# Altium footprint library PcbLib1.PcbLib: 4 footprints
Each footprint in its own frame and in the unit in brackets; x right, y up, seen from the top. Pads: shape width x height; smd on the part's side, far side on the other; paste and mask are expansions set on the pad; w line width, h text height; cw(c..) or ccw(c..) is an arc to the next point about the centre after c.
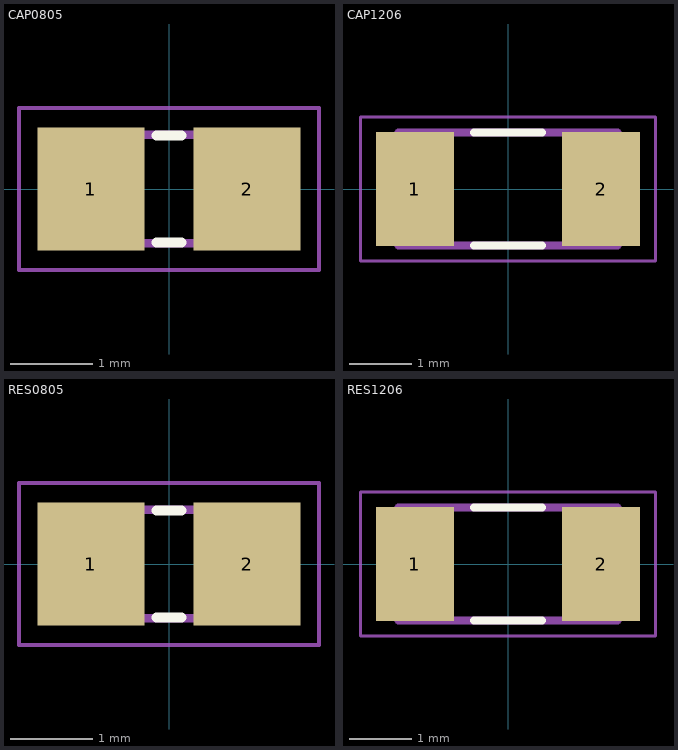
[diagram p0: the footprints below, top view; thin cyan lines are the x and y axes]

## CAP0805 [mm]
pads (2):
  rect 1.3x1.5 smd: 1(-0.95,0) 2(0.95,0)
Top Overlay:
  lines w0.127: -0.15,-0.65 0.15,-0.65 ; -0.15,0.65 0.15,0.65
Mechanical 4:
  region: -1.092,0.726 -0.342,0.726 -0.342,-0.724 -1.092,-0.724
  region: 0.356,0.726 1.106,0.726 1.106,-0.724 0.356,-0.724
  region: -1.092,0.726 -0.342,0.726 -0.342,-0.724 -1.092,-0.724
  region: 0.356,0.726 1.106,0.726 1.106,-0.724 0.356,-0.724
  lines w0.102: -0.381,0.66 0.381,0.66 -0.381,0.66 ; -0.356,-0.66 0.381,-0.66 -0.356,-0.66
Mechanical 16:
  lines w0.051: -1.823,-0.983 1.823,-0.983 1.823,0.983 -1.823,0.983 -1.823,-0.983
3D body "70611053.stp": height 0.96, standoff -0.04, extent -1.1,-0.775 1.2,0.775

## CAP1206 [mm]
pads (2):
  rect 1.24x1.82 smd: 1(-1.485,0) 2(1.485,0)
Top Overlay:
  lines w0.127: -0.54,-0.9 0.54,-0.9 ; -0.54,0.9 0.54,0.9
Mechanical 4:
  lines w0.127: -1.75,-0.9 1.75,-0.9 ; -1.75,-0.9 -1.75,0.9 ; -1.75,-0.9 1.75,-0.9 ; -1.75,-0.9 -1.75,0.9 ; -1.75,0.9 1.75,0.9 ; -1.75,0.9 1.75,0.9 ; 1.75,-0.9 1.75,0.9 ; 1.75,-0.9 1.75,0.9
Mechanical 16:
  lines w0.05: -2.355,-1.15 2.355,-1.15 2.355,1.15 -2.355,1.15 -2.355,-1.15
3D body "1206 SMD Capacitor.step": height 1, standoff 0, extent -1.5,-0.775 1.7,0.825

## RES0805 [mm]
pads (2):
  rect 1.3x1.5 smd: 1(-0.95,0) 2(0.95,0)
Top Overlay:
  lines w0.127: -0.15,-0.65 0.15,-0.65 ; -0.15,0.65 0.15,0.65
Mechanical 4:
  region: 0.356,0.726 1.106,0.726 1.106,-0.724 0.356,-0.724
  region: -1.092,0.726 -0.342,0.726 -0.342,-0.724 -1.092,-0.724
  region: 0.356,0.726 1.106,0.726 1.106,-0.724 0.356,-0.724
  region: -1.092,0.726 -0.342,0.726 -0.342,-0.724 -1.092,-0.724
  lines w0.102: -0.381,0.66 0.381,0.66 -0.381,0.66 ; -0.356,-0.66 0.381,-0.66 -0.356,-0.66
Mechanical 16:
  lines w0.051: -1.823,-0.983 -1.823,0.983 1.823,0.983 1.823,-0.983 -1.823,-0.983
3D body "res_0805.stp": height 0.65, standoff 0, extent -1,-0.6 1,0.6

## RES1206 [mm]
pads (2):
  rect 1.24x1.82 smd: 1(-1.485,0) 2(1.485,0)
Top Overlay:
  lines w0.127: -0.54,-0.9 0.54,-0.9 ; -0.54,0.9 0.54,0.9
Mechanical 4:
  lines w0.127: -1.75,-0.9 1.75,-0.9 ; -1.75,-0.9 -1.75,0.9 ; -1.75,-0.9 1.75,-0.9 ; -1.75,-0.9 -1.75,0.9 ; -1.75,0.9 1.75,0.9 ; -1.75,0.9 1.75,0.9 ; 1.75,-0.9 1.75,0.9 ; 1.75,-0.9 1.75,0.9
Mechanical 16:
  lines w0.05: -2.355,-1.15 2.355,-1.15 2.355,1.15 -2.355,1.15 -2.355,-1.15
3D body "res_1206.stp": height 0.7, standoff 0, extent -1.5,-0.8 1.7,0.8